# Altium footprint library Headers.PcbLib: 9 footprints
Each footprint in its own frame and in the unit in brackets; x right, y up, seen from the top. Pads: shape width x height; smd on the part's side, far side on the other; paste and mask are expansions set on the pad; w line width, h text height; cw(c..) or ccw(c..) is an arc to the next point about the centre after c.
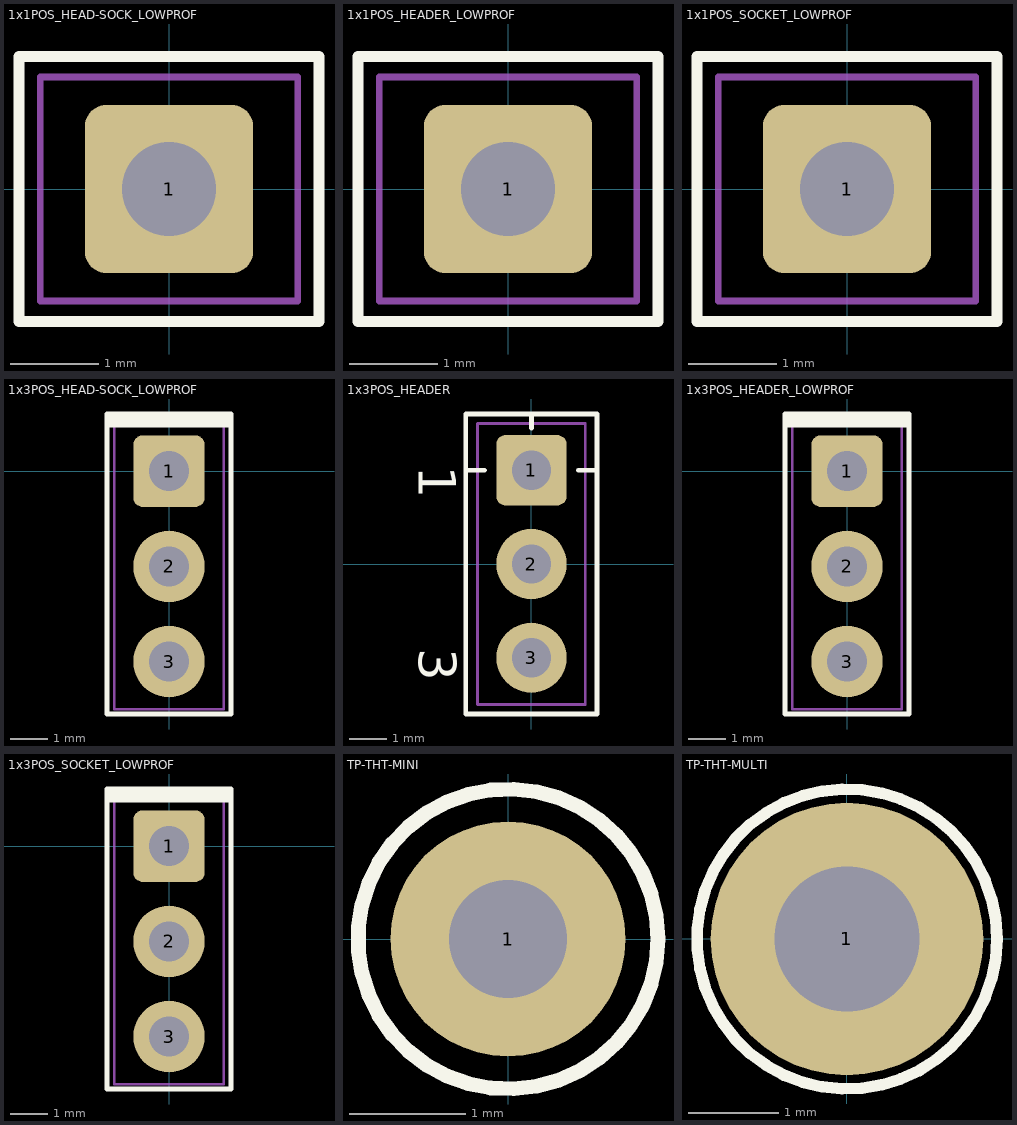
[diagram p0: the footprints below, top view; thin cyan lines are the x and y axes]

## 1x1POS_HEAD-SOCK_LOWPROF [mil] "Connector Socket with header, Single-row 1-position, 0.100\" pitch"
height 290
pads (1):
  rrect25% 75x75 hole 42: 1(0,0)
Top Overlay:
  lines w5: -66.93,-59.05 66.93,-59.05 66.93,59.06 -66.93,59.06 -66.93,-59.05
Mechanical 13:
  lines w3: -57.47,-49.99 57.49,-49.99 57.49,50.01 -57.47,50.01 -57.47,-49.99
3D body: height 165, standoff -125, extent -57.47,-50 57.49,50
3D body: height 408, standoff 23, extent -57.47,-50 57.49,50

## 1x1POS_HEADER_LOWPROF [mil] "Connector Header, Single-row 1-position, 0.100\" pitch"
height 267
pads (1):
  rrect25% 75x75 hole 42: 1(0,0)
Top Overlay:
  lines w5: -66.93,-59.06 -66.93,59.06 66.93,59.06 66.93,-59.06 -66.93,-59.06
Mechanical 13:
  lines w3: -57.47,-50 -57.47,50 57.49,50 57.49,-50 -57.47,-50
3D body: height 267, standoff -118, extent -57.47,-50 57.49,50

## 1x1POS_SOCKET_LOWPROF [mil] "Connector Socket, Single-row 1-position, 0.100\" pitch"
height 165
pads (1):
  rrect25% 75x75 hole 42: 1(0,0)
Top Overlay:
  lines w5: -66.93,-59.06 66.93,-59.06 66.93,59.06 -66.93,59.06 -66.93,-59.06
Mechanical 13:
  lines w3: -57.47,-50 57.49,-50 57.49,50 -57.47,50 -57.47,-50
3D body: height 165, standoff -125, extent -57.47,-50 57.49,50

## 1x3POS_HEAD-SOCK_LOWPROF [mil] "Connector Socket with header, Single-row 3-position, 0.100\" pitch"
height 290
pads (3):
  rrect25% 75x75 hole 42: 1(0,0)
  round 75 hole 42: 2(0,-100) 3(0,-200)
Top Overlay:
  lines w5: -65,48.19 65,48.19 ; -65,52.13 65,52.13 ; -65,56.06 65,56.06 ; -65,-255 -65,60 65,60 65,-255 -65,-255
Mechanical 13:
  lines w3: -57.47,-250 -57.47,50 57.49,50 57.49,-250 -57.47,-250
3D body: height 165, standoff -125, extent -57.47,-50 57.49,50
3D body: height 165, standoff -125, extent -57.47,-150 57.49,-50
3D body: height 165, standoff -125, extent -57.47,-250 57.49,-150
3D body: height 408, standoff 23, extent -57.48,-50 57.49,50
3D body: height 408, standoff 23, extent -57.48,-150 57.49,-50
3D body: height 408, standoff 23, extent -57.48,-250 57.49,-150

## 1x3POS_HEADER [mil] "Connector Header, Single-row 3-position, 0.100\" pitch"
height 235
pads (3):
  rrect25% 75x75 hole 42: 1(0,100)
  round 75 hole 42: 2(0,0) 3(0,-100)
Top Overlay:
  lines w5: -70,100 -50,100 ; 0,145 0,160 ; 50,100 70,100 ; -70,-160 -70,160 70,160 70,-160 -70,-160
  text "3" at -120,-90 h40
  text "1" at -120,105 h40
Mechanical 13:
  lines w3: -57.47,-150 -57.47,150 57.49,150 57.49,-150 -57.47,-150
3D body: height 335.04, standoff -144.88, extent -57.47,-150 57.49,150

## 1x3POS_HEADER_LOWPROF [mil] "Connector Header, Single-row 3-position, 0.100\" pitch"
height 267
pads (3):
  rrect25% 75x75 hole 42: 1(0,0)
  round 75 hole 42: 2(0,-100) 3(0,-200)
Top Overlay:
  lines w5: -65,48.19 65,48.19 ; -65,52.13 65,52.13 ; -65,56.06 65,56.06 ; -65,-255 65,-255 65,60 -65,60 -65,-255
Mechanical 13:
  lines w3: -57.47,-250 57.49,-250 57.49,50 -57.47,50 -57.47,-250
3D body: height 267, standoff -118, extent -57.47,-250 57.49,-150
3D body: height 267, standoff -118, extent -57.47,-150 57.49,-50
3D body: height 267, standoff -118, extent -57.47,-50 57.49,50

## 1x3POS_SOCKET_LOWPROF [mil] "Connector Socket, Single-row 3-position, 0.100\" pitch"
height 165
pads (3):
  rrect25% 75x75 hole 42: 1(0,0)
  round 75 hole 42: 2(0,-100) 3(0,-200)
Top Overlay:
  lines w5: -65,48.19 65,48.19 ; -65,52.13 65,52.13 ; -65,56.06 65,56.06 ; -65,-255 -65,60 65,60 65,-255 -65,-255
Mechanical 13:
  lines w3: -57.47,-250 -57.47,50 57.49,50 57.49,-250 -57.47,-250
3D body: height 165, standoff -125, extent -57.47,-50 57.49,50
3D body: height 165, standoff -125, extent -57.47,-150 57.49,-50
3D body: height 165, standoff -125, extent -57.47,-250 57.49,-150

## TP-THT-MINI [mil] "Thru-hole test point loop"
height 181.1
pads (1):
  round 80 / inner round 80 / far side round 90 hole 40: 1(0,0)
Top Overlay:
  circle w5: c0,0 r51
Mechanical 13:
  circle w3: c0,0 r29.94
3D body: height 180.51, standoff -118.14, extent -48.82,-49.11 49.21,49.12

## TP-THT-MULTI [mm] "Thru-hole test point loop"
height 8.1
pads (1):
  round 3 hole 1.6: 1(0,0)
Top Overlay:
  circle w0.127: c0,0 r1.651
Mechanical 13:
  circle w0.076: c0,0 r0.76
3D body: height 8.09, standoff -3.21, extent -1.597,-1.6 1.597,1.587